# Altium integrated library Actel ProASIC A500K FPGA.IntLib: 292 symbols (part 1 of 2)
Pins are listed as number, name and electrical type; pins without a type are passive.

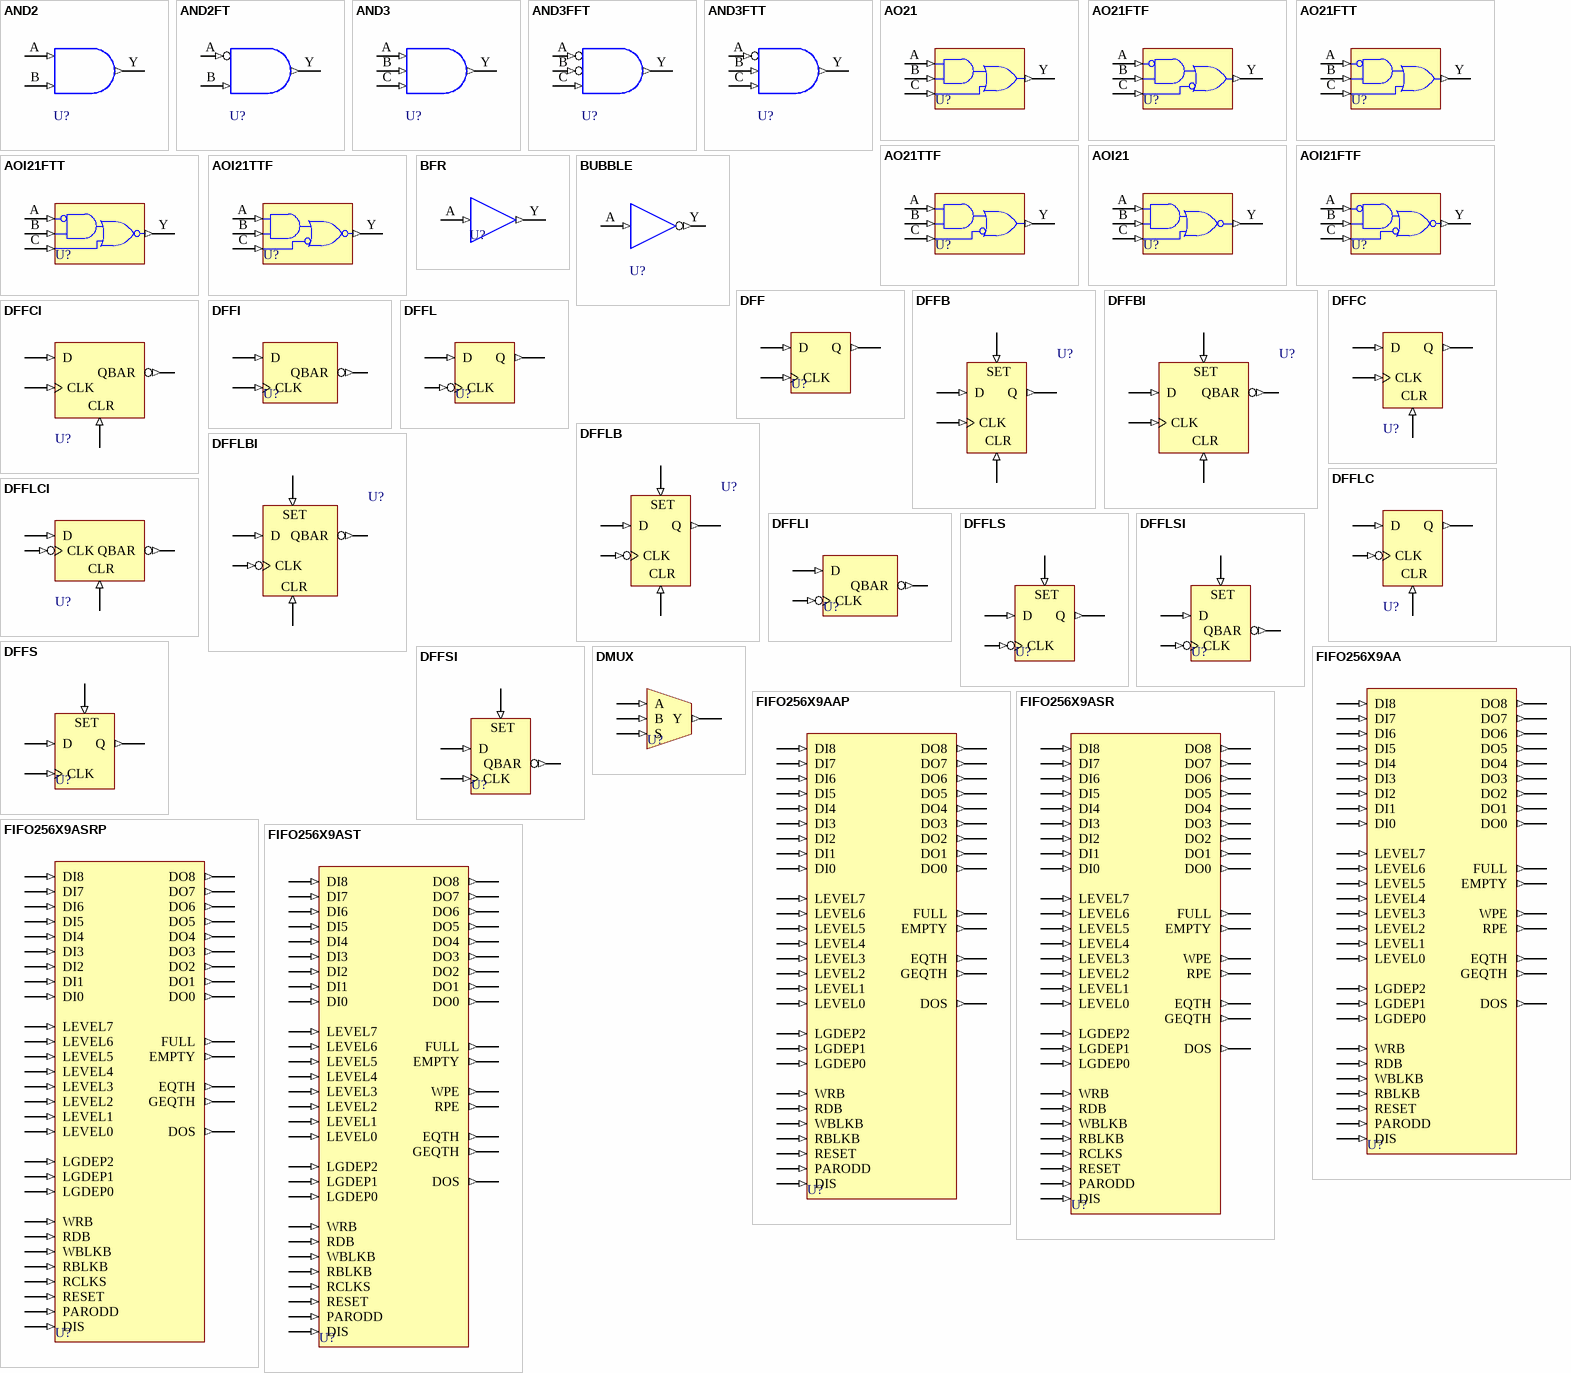
[diagram p0: symbols AND2 to FIFO256X9AST]

## AND2
designator U?
2 Input AND; FPGAVendor: Actel; Published: 21-Jul-2004; Publisher: Altium Limited; HelpURL: http://www.actel.com/documents/PA_libguide.pdf
pins: A (in), B (in), Y (out)

## AND2FT
designator U?
2 Input AND with Active Low A Input; FPGAVendor: Actel; Published: 21-Jul-2004; Publisher: Altium Limited; HelpURL: http://www.actel.com/documents/PA_libguide.pdf
pins: A (in), B (in), Y (out)

## AND3
designator U?
3 Input AND; FPGAVendor: Actel; Published: 21-Jul-2004; Publisher: Altium Limited; HelpURL: http://www.actel.com/documents/PA_libguide.pdf
pins: A (in), B (in), C (in), Y (out)

## AND3FFT
designator U?
3 Input AND with Active Low A and B Inputs; FPGAVendor: Actel; Published: 21-Jul-2004; Publisher: Altium Limited; HelpURL: http://www.actel.com/documents/PA_libguide.pdf
pins: A (in), B (in), C (in), Y (out)

## AND3FTT
designator U?
3 Input AND with Active Low A Input; FPGAVendor: Actel; Published: 21-Jul-2004; Publisher: Altium Limited; HelpURL: http://www.actel.com/documents/PA_libguide.pdf
pins: A (in), B (in), C (in), Y (out)

## AO21
designator U?
3 Input AND-OR; FPGAVendor: Actel; Published: 21-Jul-2004; Publisher: Altium Limited; HelpURL: http://www.actel.com/documents/PA_libguide.pdf
pins: A (in), B (in), C (in), Y (out)

## AO21FTF
designator U?
3 Input AND-OR with Active Low A and C Inputs; FPGAVendor: Actel; Published: 21-Jul-2004; Publisher: Altium Limited; HelpURL: http://www.actel.com/documents/PA_libguide.pdf
pins: A (in), B (in), C (in), Y (out)

## AO21FTT
designator U?
3 Input AND-OR with Active Low A Input; FPGAVendor: Actel; Published: 21-Jul-2004; Publisher: Altium Limited; HelpURL: http://www.actel.com/documents/PA_libguide.pdf
pins: A (in), B (in), C (in), Y (out)

## AO21TTF
designator U?
3 Input AND-OR with Active Low C Input; FPGAVendor: Actel; Published: 21-Jul-2004; Publisher: Altium Limited; HelpURL: http://www.actel.com/documents/PA_libguide.pdf
pins: A (in), B (in), C (in), Y (out)

## AOI21
designator U?
3 Input AND-OR-INVERT; FPGAVendor: Actel; Published: 21-Jul-2004; Publisher: Altium Limited; HelpURL: http://www.actel.com/documents/PA_libguide.pdf
pins: A (in), B (in), C (in), Y (out)

## AOI21FTF
designator U?
3 Input AND-OR-INVERT with Active Low A and C Inputs; FPGAVendor: Actel; Published: 21-Jul-2004; Publisher: Altium Limited; HelpURL: http://www.actel.com/documents/PA_libguide.pdf
pins: A (in), B (in), C (in), Y (out)

## AOI21FTT
designator U?
3 Input AND-OR-INVERT with Active Low A Input; FPGAVendor: Actel; Published: 21-Jul-2004; Publisher: Altium Limited; HelpURL: http://www.actel.com/documents/PA_libguide.pdf
pins: A (in), B (in), C (in), Y (out)

## AOI21TTF
designator U?
3 Input AND-OR-INVERT with Active Low C Input; FPGAVendor: Actel; Published: 21-Jul-2004; Publisher: Altium Limited; HelpURL: http://www.actel.com/documents/PA_libguide.pdf
pins: A (in), B (in), C (in), Y (out)

## BFR
designator U?
Buffer; FPGAVendor: Actel; Published: 21-Jul-2004; Publisher: Altium Limited; HelpURL: http://www.actel.com/documents/PA_libguide.pdf
pins: A (in), Y (out)

## BUBBLE
designator U?
Inverter (Only for internal embedded memory); FPGAVendor: Actel; Published: 21-Jul-2004; Publisher: Altium Limited; HelpURL: http://www.actel.com/documents/PA_libguide.pdf
pins: A (in), Y (out)

## DFF
designator U?
Positive Edge Triggered D-Type Flip-Flop; FPGAVendor: Actel; Published: 21-Jul-2004; Publisher: Altium Limited; HelpURL: http://www.actel.com/documents/PA_libguide.pdf
pins: CLK (in), D (in), Q (out)

## DFFB
designator U?
Positive Edge Triggered D-Type Flip-Flop with Active High Set and Clear; FPGAVendor: Actel; Published: 21-Jul-2004; Publisher: Altium Limited; HelpURL: http://www.actel.com/documents/PA_libguide.pdf
pins: CLK (in), CLR (in), D (in), Q (out), SET (in)

## DFFBI
designator U?
Positive Edge Triggered D-Type Flip-Flop with Active High Set and Clear / and Active Low Output; FPGAVendor: Actel; Published: 21-Jul-2004; Publisher: Altium Limited; HelpURL: http://www.actel.com/documents/PA_libguide.pdf
pins: CLK (in), CLR (in), D (in), QBAR (out), SET (in)

## DFFC
designator U?
Positive Edge Triggered D-Type Flip-Flop with Active High Clear; FPGAVendor: Actel; Published: 21-Jul-2004; Publisher: Altium Limited; HelpURL: http://www.actel.com/documents/PA_libguide.pdf
pins: CLK (in), CLR (in), D (in), Q (out)

## DFFCI
designator U?
Positive Edge Triggered D-Type Flip-Flop with Active High Clear and / Active Low Output; FPGAVendor: Actel; Published: 21-Jul-2004; Publisher: Altium Limited; HelpURL: http://www.actel.com/documents/PA_libguide.pdf
pins: CLK (in), CLR (in), D (in), QBAR (out)

## DFFI
designator U?
Positive Edge Triggered D-Type Flip-Flop with Active Low Output; FPGAVendor: Actel; Published: 21-Jul-2004; Publisher: Altium Limited; HelpURL: http://www.actel.com/documents/PA_libguide.pdf
pins: CLK (in), D (in), QBAR (out)

## DFFL
designator U?
Negative Edge Triggered D-Type Flip-Flop; FPGAVendor: Actel; Published: 21-Jul-2004; Publisher: Altium Limited; HelpURL: http://www.actel.com/documents/PA_libguide.pdf
pins: CLK (in), D (in), Q (out)

## DFFLB
designator U?
Negative Edge Triggered D-Type Flip-Flop with Active High Set and Clear; FPGAVendor: Actel; Published: 21-Jul-2004; Publisher: Altium Limited; HelpURL: http://www.actel.com/documents/PA_libguide.pdf
pins: CLK (in), CLR (in), D (in), Q (out), SET (in)

## DFFLBI
designator U?
Negative Edge Triggered D-Type Flip-Flop with Active High Set and Clear / and Active Low Output; FPGAVendor: Actel; Published: 21-Jul-2004; Publisher: Altium Limited; HelpURL: http://www.actel.com/documents/PA_libguide.pdf
pins: CLK (in), CLR (in), D (in), QBAR (out), SET (in)

## DFFLC
designator U?
Negative Edge Triggered D-Type Flip-Flop with Active High Clear; FPGAVendor: Actel; Published: 21-Jul-2004; Publisher: Altium Limited; HelpURL: http://www.actel.com/documents/PA_libguide.pdf
pins: CLK (in), CLR (in), D (in), Q (out)

## DFFLCI
designator U?
Negative Edge Triggered D-Type Flip-Flop with Active High Clear and / Active Low Output; FPGAVendor: Actel; Published: 21-Jul-2004; Publisher: Altium Limited; HelpURL: http://www.actel.com/documents/PA_libguide.pdf
pins: CLK (in), CLR (in), D (in), QBAR (out)

## DFFLI
designator U?
Negative Edge Triggered D-Type Flip-Flop with Active Low Output; FPGAVendor: Actel; Published: 21-Jul-2004; Publisher: Altium Limited; HelpURL: http://www.actel.com/documents/PA_libguide.pdf
pins: CLK (in), D (in), QBAR (out)

## DFFLS
designator U?
Negative Edge Triggered D-Type Flip-Flop with Active High Set; FPGAVendor: Actel; Published: 21-Jul-2004; Publisher: Altium Limited; HelpURL: http://www.actel.com/documents/PA_libguide.pdf
pins: CLK (in), D (in), Q (out), SET (in)

## DFFLSI
designator U?
Negative Edge Triggered D-Type Flip-Flop with Active High Set and / Active Low Output; FPGAVendor: Actel; Published: 21-Jul-2004; Publisher: Altium Limited; HelpURL: http://www.actel.com/documents/PA_libguide.pdf
pins: CLK (in), D (in), QBAR (out), SET (in)

## DFFS
designator U?
Positive Edge Triggered D-Type Flip-Flop with Active High Set; FPGAVendor: Actel; Published: 21-Jul-2004; Publisher: Altium Limited; HelpURL: http://www.actel.com/documents/PA_libguide.pdf
pins: CLK (in), D (in), Q (out), SET (in)

## DFFSI
designator U?
Positive Edge Triggered D-Type Flip-Flop with Active High Set and Active / Low Output; FPGAVendor: Actel; Published: 21-Jul-2004; Publisher: Altium Limited; HelpURL: http://www.actel.com/documents/PA_libguide.pdf
pins: CLK (in), D (in), QBAR (out), SET (in)

## DMUX
designator U?
Multiplexer; FPGAVendor: Actel; Published: 21-Jul-2004; Publisher: Altium Limited; HelpURL: http://www.actel.com/documents/PA_libguide.pdf
pins: A (in), B (in), S (in), Y (out)

## FIFO256X9AA
designator U?
Asynchronous Write/Asynchronous Read FIFO with Parity Checking; FPGAVendor: Actel; Published: 21-Jul-2004; Publisher: Altium Limited; HelpURL: http://www.actel.com/documents/PA_libguide.pdf
pins: DI0 (in), DI1 (in), DI2 (in), DI3 (in), DI4 (in), DI5 (in), DI6 (in), DI7 (in), DI8 (in), DIS (in), DO0 (out), DO1 (out), DO2 (out), DO3 (out), DO4 (out), DO5 (out), DO6 (out), DO7 (out), DO8 (out), DOS (out), EMPTY (out), EQTH (out), FULL (out), GEQTH (out), LEVEL0 (in), LEVEL1 (in), LEVEL2 (in), LEVEL3 (in), LEVEL4 (in), LEVEL5 (in), LEVEL6 (in), LEVEL7 (in), LGDEP0 (in), LGDEP1 (in), LGDEP2 (in), PARODD (in), RBLKB (in), RDB (in), RESET (in), RPE (out), WBLKB (in), WPE (out), WRB (in)

## FIFO256X9AAP
designator U?
Asynchronous Write/Asynchronous Read FIFO with Parity Generation; FPGAVendor: Actel; Published: 21-Jul-2004; Publisher: Altium Limited; HelpURL: http://www.actel.com/documents/PA_libguide.pdf
pins: DI0 (in), DI1 (in), DI2 (in), DI3 (in), DI4 (in), DI5 (in), DI6 (in), DI7 (in), DI8 (in), DIS (in), DO0 (out), DO1 (out), DO2 (out), DO3 (out), DO4 (out), DO5 (out), DO6 (out), DO7 (out), DO8 (out), DOS (out), EMPTY (out), EQTH (out), FULL (out), GEQTH (out), LEVEL0 (in), LEVEL1 (in), LEVEL2 (in), LEVEL3 (in), LEVEL4 (in), LEVEL5 (in), LEVEL6 (in), LEVEL7 (in), LGDEP0 (in), LGDEP1 (in), LGDEP2 (in), PARODD (in), RBLKB (in), RDB (in), RESET (in), WBLKB (in), WRB (in)

## FIFO256X9ASR
designator U?
Asynchronous Write/Synchronous Read FIFO with Registered Output and Parity Checking; FPGAVendor: Actel; Published: 21-Jul-2004; Publisher: Altium Limited; HelpURL: http://www.actel.com/documents/PA_libguide.pdf
pins: DI0 (in), DI1 (in), DI2 (in), DI3 (in), DI4 (in), DI5 (in), DI6 (in), DI7 (in), DI8 (in), DIS (in), DO0 (out), DO1 (out), DO2 (out), DO3 (out), DO4 (out), DO5 (out), DO6 (out), DO7 (out), DO8 (out), DOS (out), EMPTY (out), EQTH (out), FULL (out), GEQTH (out), LEVEL0 (in), LEVEL1 (in), LEVEL2 (in), LEVEL3 (in), LEVEL4 (in), LEVEL5 (in), LEVEL6 (in), LEVEL7 (in), LGDEP0 (in), LGDEP1 (in), LGDEP2 (in), PARODD (in), RBLKB (in), RCLKS (in), RDB (in), RESET (in), RPE (out), WBLKB (in), WPE (out), WRB (in)

## FIFO256X9ASRP
designator U?
Asynchronous Write/Synchronous Read FIFO with Registered Output and Parity Generation; FPGAVendor: Actel; Published: 21-Jul-2004; Publisher: Altium Limited; HelpURL: http://www.actel.com/documents/PA_libguide.pdf
pins: DI0 (in), DI1 (in), DI2 (in), DI3 (in), DI4 (in), DI5 (in), DI6 (in), DI7 (in), DI8 (in), DIS (in), DO0 (out), DO1 (out), DO2 (out), DO3 (out), DO4 (out), DO5 (out), DO6 (out), DO7 (out), DO8 (out), DOS (out), EMPTY (out), EQTH (out), FULL (out), GEQTH (out), LEVEL0 (in), LEVEL1 (in), LEVEL2 (in), LEVEL3 (in), LEVEL4 (in), LEVEL5 (in), LEVEL6 (in), LEVEL7 (in), LGDEP0 (in), LGDEP1 (in), LGDEP2 (in), PARODD (in), RBLKB (in), RCLKS (in), RDB (in), RESET (in), WBLKB (in), WRB (in)

## FIFO256X9AST
designator U?
Asynchronous Write/Synchronous Read FIFO with Transparent Output and Parity Checking; FPGAVendor: Actel; Published: 21-Jul-2004; Publisher: Altium Limited; HelpURL: http://www.actel.com/documents/PA_libguide.pdf
pins: DI0 (in), DI1 (in), DI2 (in), DI3 (in), DI4 (in), DI5 (in), DI6 (in), DI7 (in), DI8 (in), DIS (in), DO0 (out), DO1 (out), DO2 (out), DO3 (out), DO4 (out), DO5 (out), DO6 (out), DO7 (out), DO8 (out), DOS (out), EMPTY (out), EQTH (out), FULL (out), GEQTH (out), LEVEL0 (in), LEVEL1 (in), LEVEL2 (in), LEVEL3 (in), LEVEL4 (in), LEVEL5 (in), LEVEL6 (in), LEVEL7 (in), LGDEP0 (in), LGDEP1 (in), LGDEP2 (in), PARODD (in), RBLKB (in), RCLKS (in), RDB (in), RESET (in), RPE (out), WBLKB (in), WPE (out), WRB (in)

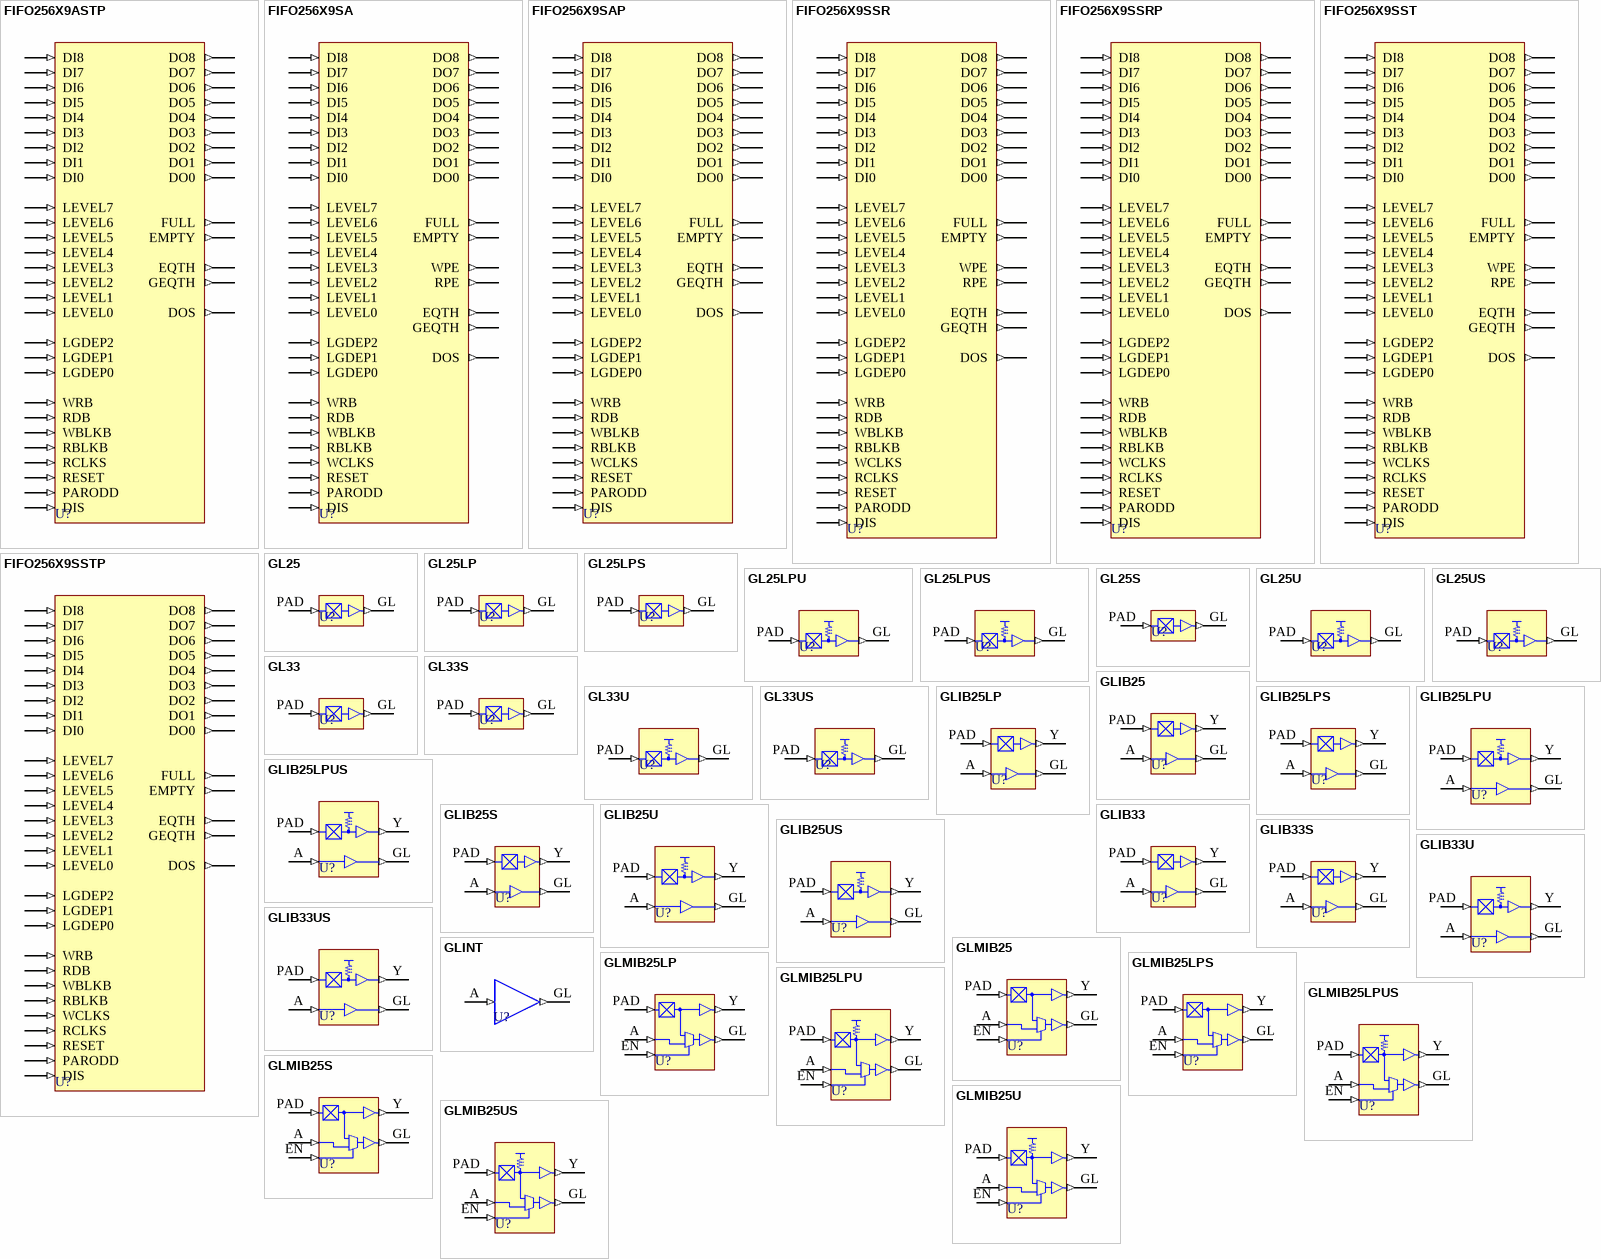
[diagram p1: symbols FIFO256X9ASTP to GLMIB25US]

## FIFO256X9ASTP
designator U?
Asynchronous Write/Synchronous Read FIFO with Transparent Output and Parity Generation; FPGAVendor: Actel; Published: 21-Jul-2004; Publisher: Altium Limited; HelpURL: http://www.actel.com/documents/PA_libguide.pdf
pins: DI0 (in), DI1 (in), DI2 (in), DI3 (in), DI4 (in), DI5 (in), DI6 (in), DI7 (in), DI8 (in), DIS (in), DO0 (out), DO1 (out), DO2 (out), DO3 (out), DO4 (out), DO5 (out), DO6 (out), DO7 (out), DO8 (out), DOS (out), EMPTY (out), EQTH (out), FULL (out), GEQTH (out), LEVEL0 (in), LEVEL1 (in), LEVEL2 (in), LEVEL3 (in), LEVEL4 (in), LEVEL5 (in), LEVEL6 (in), LEVEL7 (in), LGDEP0 (in), LGDEP1 (in), LGDEP2 (in), PARODD (in), RBLKB (in), RCLKS (in), RDB (in), RESET (in), WBLKB (in), WRB (in)

## FIFO256X9SA
designator U?
Synchronous Write/Asynchronous Read FIFO with Parity Checking; FPGAVendor: Actel; Published: 21-Jul-2004; Publisher: Altium Limited; HelpURL: http://www.actel.com/documents/PA_libguide.pdf
pins: DI0 (in), DI1 (in), DI2 (in), DI3 (in), DI4 (in), DI5 (in), DI6 (in), DI7 (in), DI8 (in), DIS (in), DO0 (out), DO1 (out), DO2 (out), DO3 (out), DO4 (out), DO5 (out), DO6 (out), DO7 (out), DO8 (out), DOS (out), EMPTY (out), EQTH (out), FULL (out), GEQTH (out), LEVEL0 (in), LEVEL1 (in), LEVEL2 (in), LEVEL3 (in), LEVEL4 (in), LEVEL5 (in), LEVEL6 (in), LEVEL7 (in), LGDEP0 (in), LGDEP1 (in), LGDEP2 (in), PARODD (in), RBLKB (in), RDB (in), RESET (in), RPE (out), WBLKB (in), WCLKS (in), WPE (out), WRB (in)

## FIFO256X9SAP
designator U?
Synchronous Write/Asynchronous Read FIFO with Parity Generation; FPGAVendor: Actel; Published: 21-Jul-2004; Publisher: Altium Limited; HelpURL: http://www.actel.com/documents/PA_libguide.pdf
pins: DI0 (in), DI1 (in), DI2 (in), DI3 (in), DI4 (in), DI5 (in), DI6 (in), DI7 (in), DI8 (in), DIS (in), DO0 (out), DO1 (out), DO2 (out), DO3 (out), DO4 (out), DO5 (out), DO6 (out), DO7 (out), DO8 (out), DOS (out), EMPTY (out), EQTH (out), FULL (out), GEQTH (out), LEVEL0 (in), LEVEL1 (in), LEVEL2 (in), LEVEL3 (in), LEVEL4 (in), LEVEL5 (in), LEVEL6 (in), LEVEL7 (in), LGDEP0 (in), LGDEP1 (in), LGDEP2 (in), PARODD (in), RBLKB (in), RDB (in), RESET (in), WBLKB (in), WCLKS (in), WRB (in)

## FIFO256X9SSR
designator U?
Synchronous Write/Synchronous Read FIFO with Registered Output and Parity Checking; FPGAVendor: Actel; Published: 21-Jul-2004; Publisher: Altium Limited; HelpURL: http://www.actel.com/documents/PA_libguide.pdf
pins: DI0 (in), DI1 (in), DI2 (in), DI3 (in), DI4 (in), DI5 (in), DI6 (in), DI7 (in), DI8 (in), DIS (in), DO0 (out), DO1 (out), DO2 (out), DO3 (out), DO4 (out), DO5 (out), DO6 (out), DO7 (out), DO8 (out), DOS (out), EMPTY (out), EQTH (out), FULL (out), GEQTH (out), LEVEL0 (in), LEVEL1 (in), LEVEL2 (in), LEVEL3 (in), LEVEL4 (in), LEVEL5 (in), LEVEL6 (in), LEVEL7 (in), LGDEP0 (in), LGDEP1 (in), LGDEP2 (in), PARODD (in), RBLKB (in), RCLKS (in), RDB (in), RESET (in), RPE (out), WBLKB (in), WCLKS (in), WPE (out), WRB (in)

## FIFO256X9SSRP
designator U?
Synchronous Write/Synchronous Read FIFO with Registered Output and Parity Generation; FPGAVendor: Actel; Published: 21-Jul-2004; Publisher: Altium Limited; HelpURL: http://www.actel.com/documents/PA_libguide.pdf
pins: DI0 (in), DI1 (in), DI2 (in), DI3 (in), DI4 (in), DI5 (in), DI6 (in), DI7 (in), DI8 (in), DIS (in), DO0 (out), DO1 (out), DO2 (out), DO3 (out), DO4 (out), DO5 (out), DO6 (out), DO7 (out), DO8 (out), DOS (out), EMPTY (out), EQTH (out), FULL (out), GEQTH (out), LEVEL0 (in), LEVEL1 (in), LEVEL2 (in), LEVEL3 (in), LEVEL4 (in), LEVEL5 (in), LEVEL6 (in), LEVEL7 (in), LGDEP0 (in), LGDEP1 (in), LGDEP2 (in), PARODD (in), RBLKB (in), RCLKS (in), RDB (in), RESET (in), WBLKB (in), WCLKS (in), WRB (in)

## FIFO256X9SST
designator U?
Synchronous Write/Synchronous Read FIFO with Transparent Output and Parity Checking; FPGAVendor: Actel; Published: 21-Jul-2004; Publisher: Altium Limited; HelpURL: http://www.actel.com/documents/PA_libguide.pdf
pins: DI0 (in), DI1 (in), DI2 (in), DI3 (in), DI4 (in), DI5 (in), DI6 (in), DI7 (in), DI8 (in), DIS (in), DO0 (out), DO1 (out), DO2 (out), DO3 (out), DO4 (out), DO5 (out), DO6 (out), DO7 (out), DO8 (out), DOS (out), EMPTY (out), EQTH (out), FULL (out), GEQTH (out), LEVEL0 (in), LEVEL1 (in), LEVEL2 (in), LEVEL3 (in), LEVEL4 (in), LEVEL5 (in), LEVEL6 (in), LEVEL7 (in), LGDEP0 (in), LGDEP1 (in), LGDEP2 (in), PARODD (in), RBLKB (in), RCLKS (in), RDB (in), RESET (in), RPE (out), WBLKB (in), WCLKS (in), WPE (out), WRB (in)

## FIFO256X9SSTP
designator U?
Synchronous Write/Synchronous Read FIFO with Transparent Output and Parity Generation; FPGAVendor: Actel; Published: 21-Jul-2004; Publisher: Altium Limited; HelpURL: http://www.actel.com/documents/PA_libguide.pdf
pins: DI0 (in), DI1 (in), DI2 (in), DI3 (in), DI4 (in), DI5 (in), DI6 (in), DI7 (in), DI8 (in), DIS (in), DO0 (out), DO1 (out), DO2 (out), DO3 (out), DO4 (out), DO5 (out), DO6 (out), DO7 (out), DO8 (out), DOS (out), EMPTY (out), EQTH (out), FULL (out), GEQTH (out), LEVEL0 (in), LEVEL1 (in), LEVEL2 (in), LEVEL3 (in), LEVEL4 (in), LEVEL5 (in), LEVEL6 (in), LEVEL7 (in), LGDEP0 (in), LGDEP1 (in), LGDEP2 (in), PARODD (in), RBLKB (in), RCLKS (in), RDB (in), RESET (in), WBLKB (in), WCLKS (in), WRB (in)

## GL25
designator U?
2.5 Volt CMOS input levels; FPGAVendor: Actel; Published: 21-Jul-2004; Publisher: Altium Limited; HelpURL: http://www.actel.com/documents/PA_libguide.pdf
pins: GL (out), PAD (in)

## GL25LP
designator U?
2.5 Volt CMOS input levels, low power; FPGAVendor: Actel; Published: 21-Jul-2004; Publisher: Altium Limited; HelpURL: http://www.actel.com/documents/PA_libguide.pdf
pins: GL (out), PAD (in)

## GL25LPS
designator U?
2.5 Volt CMOS input levels, low power, Schmitt Trigger; FPGAVendor: Actel; Published: 21-Jul-2004; Publisher: Altium Limited; HelpURL: http://www.actel.com/documents/PA_libguide.pdf
pins: GL (out), PAD (in)

## GL25LPU
designator U?
2.5 Volt CMOS input levels, low power, with pull-up resistor; FPGAVendor: Actel; Published: 21-Jul-2004; Publisher: Altium Limited; HelpURL: http://www.actel.com/documents/PA_libguide.pdf
pins: GL (out), PAD (in)

## GL25LPUS
designator U?
2.5 Volt CMOS input levels, low power, with pull-up resistor, Schmitt Trigger; FPGAVendor: Actel; Published: 21-Jul-2004; Publisher: Altium Limited; HelpURL: http://www.actel.com/documents/PA_libguide.pdf
pins: GL (out), PAD (in)

## GL25S
designator U?
2.5 Volt CMOS input levels, Schmitt Trigger; FPGAVendor: Actel; Published: 21-Jul-2004; Publisher: Altium Limited; HelpURL: http://www.actel.com/documents/PA_libguide.pdf
pins: GL (out), PAD (in)

## GL25U
designator U?
2.5 Volt CMOS input levels, with pull-up resistor; FPGAVendor: Actel; Published: 21-Jul-2004; Publisher: Altium Limited; HelpURL: http://www.actel.com/documents/PA_libguide.pdf
pins: GL (out), PAD (in)

## GL25US
designator U?
2.5 Volt CMOS input levels, with pull-up resistor, Schmitt Trigger; FPGAVendor: Actel; Published: 21-Jul-2004; Publisher: Altium Limited; HelpURL: http://www.actel.com/documents/PA_libguide.pdf
pins: GL (out), PAD (in)

## GL33
designator U?
3.3 Volt CMOS input levels; FPGAVendor: Actel; Published: 21-Jul-2004; Publisher: Altium Limited; HelpURL: http://www.actel.com/documents/PA_libguide.pdf
pins: GL (out), PAD (in)

## GL33S
designator U?
3.3 Volt CMOS input levels, Schmitt Trigger; FPGAVendor: Actel; Published: 21-Jul-2004; Publisher: Altium Limited; HelpURL: http://www.actel.com/documents/PA_libguide.pdf
pins: GL (out), PAD (in)

## GL33U
designator U?
3.3 Volt CMOS input levels, with pull-up resistor; FPGAVendor: Actel; Published: 21-Jul-2004; Publisher: Altium Limited; HelpURL: http://www.actel.com/documents/PA_libguide.pdf
pins: GL (out), PAD (in)

## GL33US
designator U?
3.3 Volt CMOS input levels, with pull-up resistor, Schmitt Trigger; FPGAVendor: Actel; Published: 21-Jul-2004; Publisher: Altium Limited; HelpURL: http://www.actel.com/documents/PA_libguide.pdf
pins: GL (out), PAD (in)

## GLIB25
designator U?
2.5 Volt CMOS input levels; FPGAVendor: Actel; Published: 21-Jul-2004; Publisher: Altium Limited; HelpURL: http://www.actel.com/documents/PA_libguide.pdf
pins: A (in), GL (out), PAD (in), Y (out)

## GLIB25LP
designator U?
2.5 Volt CMOS input levels, low power; FPGAVendor: Actel; Published: 21-Jul-2004; Publisher: Altium Limited; HelpURL: http://www.actel.com/documents/PA_libguide.pdf
pins: A (in), GL (out), PAD (in), Y (out)

## GLIB25LPS
designator U?
2.5 Volt CMOS input levels, low power, Schmitt Trigger; FPGAVendor: Actel; Published: 21-Jul-2004; Publisher: Altium Limited; HelpURL: http://www.actel.com/documents/PA_libguide.pdf
pins: A (in), GL (out), PAD (in), Y (out)

## GLIB25LPU
designator U?
2.5 Volt CMOS input levels, low power, with pull-up resistor; FPGAVendor: Actel; Published: 21-Jul-2004; Publisher: Altium Limited; HelpURL: http://www.actel.com/documents/PA_libguide.pdf
pins: A (in), GL (out), PAD (in), Y (out)

## GLIB25LPUS
designator U?
2.5 Volt CMOS input levels, low power, with pull-up resistor and Schmitt Trigger; FPGAVendor: Actel; Published: 21-Jul-2004; Publisher: Altium Limited; HelpURL: http://www.actel.com/documents/PA_libguide.pdf
pins: A (in), GL (out), PAD (in), Y (out)

## GLIB25S
designator U?
2.5 Volt CMOS input levels, Schmitt Trigger; FPGAVendor: Actel; Published: 21-Jul-2004; Publisher: Altium Limited; HelpURL: http://www.actel.com/documents/PA_libguide.pdf
pins: A (in), GL (out), PAD (in), Y (out)

## GLIB25U
designator U?
2.5 Volt CMOS input levels, with pull-up resistor; FPGAVendor: Actel; Published: 21-Jul-2004; Publisher: Altium Limited; HelpURL: http://www.actel.com/documents/PA_libguide.pdf
pins: A (in), GL (out), PAD (in), Y (out)

## GLIB25US
designator U?
2.5 Volt CMOS input levels, with pull-up resistor and Schmitt Trigger; FPGAVendor: Actel; Published: 21-Jul-2004; Publisher: Altium Limited; HelpURL: http://www.actel.com/documents/PA_libguide.pdf
pins: A (in), GL (out), PAD (in), Y (out)

## GLIB33
designator U?
3.3 Volt CMOS input levels; FPGAVendor: Actel; Published: 21-Jul-2004; Publisher: Altium Limited; HelpURL: http://www.actel.com/documents/PA_libguide.pdf
pins: A (in), GL (out), PAD (in), Y (out)

## GLIB33S
designator U?
3.3 Volt CMOS input levels, Schmitt Trigger; FPGAVendor: Actel; Published: 21-Jul-2004; Publisher: Altium Limited; HelpURL: http://www.actel.com/documents/PA_libguide.pdf
pins: A (in), GL (out), PAD (in), Y (out)

## GLIB33U
designator U?
3.3 Volt CMOS input levels, with pull-up resistor; FPGAVendor: Actel; Published: 21-Jul-2004; Publisher: Altium Limited; HelpURL: http://www.actel.com/documents/PA_libguide.pdf
pins: A (in), GL (out), PAD (in), Y (out)

## GLIB33US
designator U?
3.3 Volt CMOS input levels, with pull-up resistor and Schmitt Trigger; FPGAVendor: Actel; Published: 21-Jul-2004; Publisher: Altium Limited; HelpURL: http://www.actel.com/documents/PA_libguide.pdf
pins: A (in), GL (out), PAD (in), Y (out)

## GLINT
designator U?
Global Buffer with Internal Connection; FPGAVendor: Actel; Published: 21-Jul-2004; Publisher: Altium Limited; HelpURL: http://www.actel.com/documents/PA_libguide.pdf
pins: A (in), GL (out)

## GLMIB25
designator U?
2.5 Volt CMOS input levels; FPGAVendor: Actel; Published: 21-Jul-2004; Publisher: Altium Limited; HelpURL: http://www.actel.com/documents/PA_libguide.pdf
pins: A (in), EN (in), GL (out), PAD (in), Y (out)

## GLMIB25LP
designator U?
2.5 Volt CMOS input levels, low power; FPGAVendor: Actel; Published: 21-Jul-2004; Publisher: Altium Limited; HelpURL: http://www.actel.com/documents/PA_libguide.pdf
pins: A (in), EN (in), GL (out), PAD (in), Y (out)

## GLMIB25LPS
designator U?
2.5 Volt CMOS input levels, low power, Schmitt Trigger; FPGAVendor: Actel; Published: 21-Jul-2004; Publisher: Altium Limited; HelpURL: http://www.actel.com/documents/PA_libguide.pdf
pins: A (in), EN (in), GL (out), PAD (in), Y (out)

## GLMIB25LPU
designator U?
2.5 Volt CMOS input levels, low power, with pull-up resistor; FPGAVendor: Actel; Published: 21-Jul-2004; Publisher: Altium Limited; HelpURL: http://www.actel.com/documents/PA_libguide.pdf
pins: A (in), EN (in), GL (out), PAD (in), Y (out)

## GLMIB25LPUS
designator U?
2.5 Volt CMOS input levels, low power, with pull-up resistor and Schmitt Trigger; FPGAVendor: Actel; Published: 21-Jul-2004; Publisher: Altium Limited; HelpURL: http://www.actel.com/documents/PA_libguide.pdf
pins: A (in), EN (in), GL (out), PAD (in), Y (out)

## GLMIB25S
designator U?
2.5 Volt CMOS input levels, Schmitt Trigger; FPGAVendor: Actel; Published: 21-Jul-2004; Publisher: Altium Limited; HelpURL: http://www.actel.com/documents/PA_libguide.pdf
pins: A (in), EN (in), GL (out), PAD (in), Y (out)

## GLMIB25U
designator U?
2.5 Volt CMOS input levels, with pull-up resistor; FPGAVendor: Actel; Published: 21-Jul-2004; Publisher: Altium Limited; HelpURL: http://www.actel.com/documents/PA_libguide.pdf
pins: A (in), EN (in), GL (out), PAD (in), Y (out)

## GLMIB25US
designator U?
2.5 Volt CMOS input levels, with pull-up resistor and Schmitt Trigger; FPGAVendor: Actel; Published: 21-Jul-2004; Publisher: Altium Limited; HelpURL: http://www.actel.com/documents/PA_libguide.pdf
pins: A (in), EN (in), GL (out), PAD (in), Y (out)

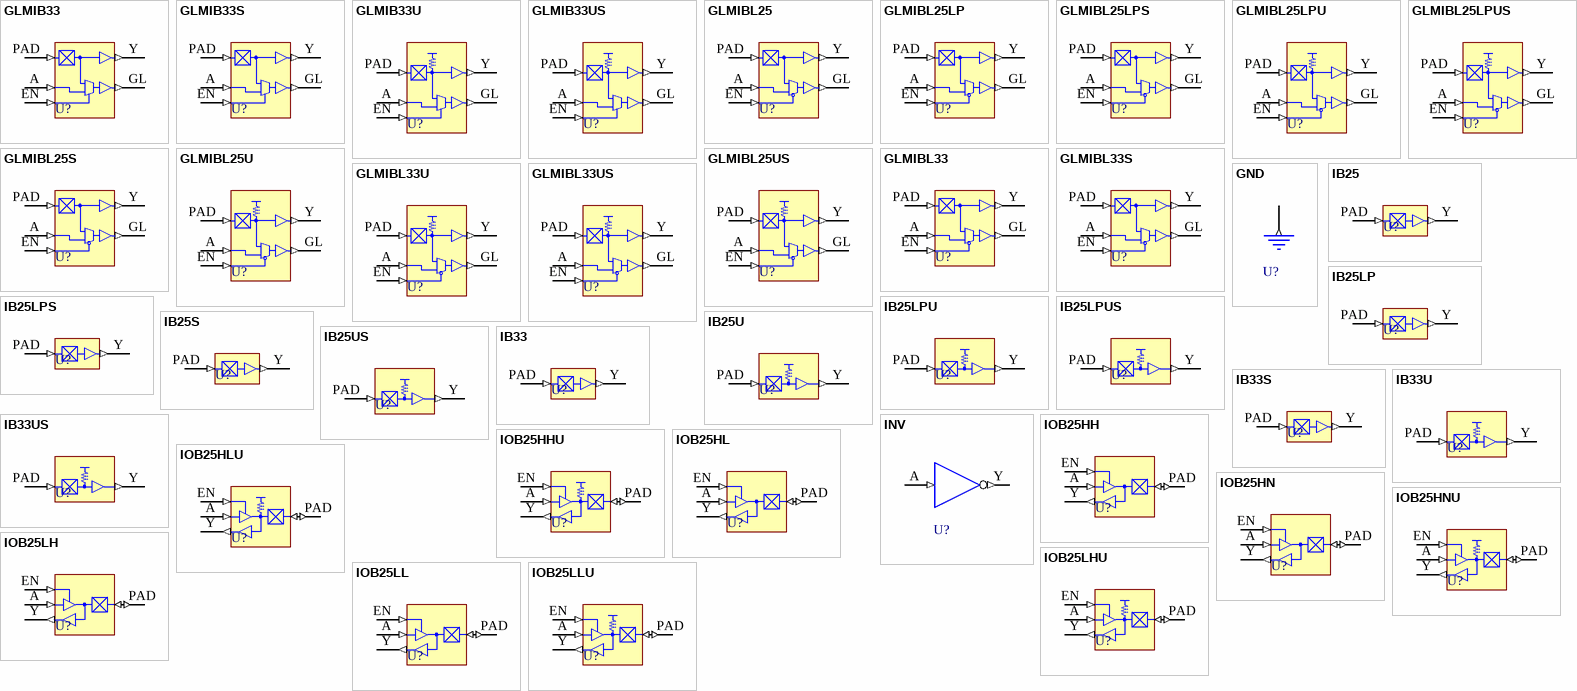
[diagram p2: symbols GLMIB33 to IOB25LLU]

## GLMIB33
designator U?
3.3 Volt CMOS input levels; FPGAVendor: Actel; Published: 21-Jul-2004; Publisher: Altium Limited; HelpURL: http://www.actel.com/documents/PA_libguide.pdf
pins: A (in), EN (in), GL (out), PAD (in), Y (out)

## GLMIB33S
designator U?
3.3 Volt CMOS input levels, Schmitt Trigger; FPGAVendor: Actel; Published: 21-Jul-2004; Publisher: Altium Limited; HelpURL: http://www.actel.com/documents/PA_libguide.pdf
pins: A (in), EN (in), GL (out), PAD (in), Y (out)

## GLMIB33U
designator U?
3.3 Volt CMOS input levels, with pull-up resistor; FPGAVendor: Actel; Published: 21-Jul-2004; Publisher: Altium Limited; HelpURL: http://www.actel.com/documents/PA_libguide.pdf
pins: A (in), EN (in), GL (out), PAD (in), Y (out)

## GLMIB33US
designator U?
3.3 Volt CMOS input levels, with pull-up resistor and Schmitt Trigger; FPGAVendor: Actel; Published: 21-Jul-2004; Publisher: Altium Limited; HelpURL: http://www.actel.com/documents/PA_libguide.pdf
pins: A (in), EN (in), GL (out), PAD (in), Y (out)

## GLMIBL25
designator U?
2.5 Volt CMOS input levels; FPGAVendor: Actel; Published: 21-Jul-2004; Publisher: Altium Limited; HelpURL: http://www.actel.com/documents/PA_libguide.pdf
pins: A (in), EN (in), GL (out), PAD (in), Y (out)

## GLMIBL25LP
designator U?
2.5 Volt CMOS input levels, low power; FPGAVendor: Actel; Published: 21-Jul-2004; Publisher: Altium Limited; HelpURL: http://www.actel.com/documents/PA_libguide.pdf
pins: A (in), EN (in), GL (out), PAD (in), Y (out)

## GLMIBL25LPS
designator U?
2.5 Volt CMOS input levels, low power, Schmitt Trigger; FPGAVendor: Actel; Published: 21-Jul-2004; Publisher: Altium Limited; HelpURL: http://www.actel.com/documents/PA_libguide.pdf
pins: A (in), EN (in), GL (out), PAD (in), Y (out)

## GLMIBL25LPU
designator U?
2.5 Volt CMOS input levels, low power, with pull-up resistor; FPGAVendor: Actel; Published: 21-Jul-2004; Publisher: Altium Limited; HelpURL: http://www.actel.com/documents/PA_libguide.pdf
pins: A (in), EN (in), GL (out), PAD (in), Y (out)

## GLMIBL25LPUS
designator U?
2.5 Volt CMOS input levels, low power, with pull-up resistor and Schmitt Trigger; FPGAVendor: Actel; Published: 21-Jul-2004; Publisher: Altium Limited; HelpURL: http://www.actel.com/documents/PA_libguide.pdf
pins: A (in), EN (in), GL (out), PAD (in), Y (out)

## GLMIBL25S
designator U?
2.5 Volt CMOS input levels, Schmitt Trigger; FPGAVendor: Actel; Published: 21-Jul-2004; Publisher: Altium Limited; HelpURL: http://www.actel.com/documents/PA_libguide.pdf
pins: A (in), EN (in), GL (out), PAD (in), Y (out)

## GLMIBL25U
designator U?
2.5 Volt CMOS input levels, with pull-up resistor; FPGAVendor: Actel; Published: 21-Jul-2004; Publisher: Altium Limited; HelpURL: http://www.actel.com/documents/PA_libguide.pdf
pins: A (in), EN (in), GL (out), PAD (in), Y (out)

## GLMIBL25US
designator U?
2.5 Volt CMOS input levels, with pull-up resistor and Schmitt Trigger; FPGAVendor: Actel; Published: 21-Jul-2004; Publisher: Altium Limited; HelpURL: http://www.actel.com/documents/PA_libguide.pdf
pins: A (in), EN (in), GL (out), PAD (in), Y (out)

## GLMIBL33
designator U?
3.3 Volt CMOS input levels; FPGAVendor: Actel; Published: 21-Jul-2004; Publisher: Altium Limited; HelpURL: http://www.actel.com/documents/PA_libguide.pdf
pins: A (in), EN (in), GL (out), PAD (in), Y (out)

## GLMIBL33S
designator U?
3.3 Volt CMOS input levels, Schmitt Trigger; FPGAVendor: Actel; Published: 21-Jul-2004; Publisher: Altium Limited; HelpURL: http://www.actel.com/documents/PA_libguide.pdf
pins: A (in), EN (in), GL (out), PAD (in), Y (out)

## GLMIBL33U
designator U?
3.3 Volt CMOS input levels, with pull-up resistor; FPGAVendor: Actel; Published: 21-Jul-2004; Publisher: Altium Limited; HelpURL: http://www.actel.com/documents/PA_libguide.pdf
pins: A (in), EN (in), GL (out), PAD (in), Y (out)

## GLMIBL33US
designator U?
3.3 Volt CMOS input levels, with pull-up resistor and Schmitt Trigger; FPGAVendor: Actel; Published: 21-Jul-2004; Publisher: Altium Limited; HelpURL: http://www.actel.com/documents/PA_libguide.pdf
pins: A (in), EN (in), GL (out), PAD (in), Y (out)

## GND
designator U?
Ground; FPGAVendor: Actel; Published: 21-Jul-2004; Publisher: Altium Limited; HelpURL: http://www.actel.com/documents/PA_libguide.pdf
pins: Y (out)

## IB25
designator U?
2.5 Volt CMOS input levels; FPGAVendor: Actel; Published: 21-Jul-2004; Publisher: Altium Limited; HelpURL: http://www.actel.com/documents/PA_libguide.pdf
pins: PAD (in), Y (out)

## IB25LP
designator U?
2.5 Volt CMOS input levels, low power; FPGAVendor: Actel; Published: 21-Jul-2004; Publisher: Altium Limited; HelpURL: http://www.actel.com/documents/PA_libguide.pdf
pins: PAD (in), Y (out)

## IB25LPS
designator U?
2.5 Volt CMOS input levels, low power, Schmitt Trigger; FPGAVendor: Actel; Published: 21-Jul-2004; Publisher: Altium Limited; HelpURL: http://www.actel.com/documents/PA_libguide.pdf
pins: PAD (in), Y (out)

## IB25LPU
designator U?
2.5 Volt CMOS input levels, low power, with pull-up resistor; FPGAVendor: Actel; Published: 21-Jul-2004; Publisher: Altium Limited; HelpURL: http://www.actel.com/documents/PA_libguide.pdf
pins: PAD (in), Y (out)

## IB25LPUS
designator U?
2.5 Volt CMOS input levels, low power, with pull-up resistor and Schmitt Trigger; FPGAVendor: Actel; Published: 21-Jul-2004; Publisher: Altium Limited; HelpURL: http://www.actel.com/documents/PA_libguide.pdf
pins: PAD (in), Y (out)

## IB25S
designator U?
2.5 Volt CMOS input levels, Schmitt Trigger; FPGAVendor: Actel; Published: 21-Jul-2004; Publisher: Altium Limited; HelpURL: http://www.actel.com/documents/PA_libguide.pdf
pins: PAD (in), Y (out)

## IB25U
designator U?
2.5 Volt CMOS input levels, with pull-up resistor; FPGAVendor: Actel; Published: 21-Jul-2004; Publisher: Altium Limited; HelpURL: http://www.actel.com/documents/PA_libguide.pdf
pins: PAD (in), Y (out)

## IB25US
designator U?
2.5 Volt CMOS input levels, with pull-up resistor and Schmitt Trigger; FPGAVendor: Actel; Published: 21-Jul-2004; Publisher: Altium Limited; HelpURL: http://www.actel.com/documents/PA_libguide.pdf
pins: PAD (in), Y (out)

## IB33
designator U?
3.3 Volt CMOS input levels; FPGAVendor: Actel; Published: 21-Jul-2004; Publisher: Altium Limited; HelpURL: http://www.actel.com/documents/PA_libguide.pdf
pins: PAD (in), Y (out)

## IB33S
designator U?
3.3 Volt CMOS input levels, Schmitt Trigger; FPGAVendor: Actel; Published: 21-Jul-2004; Publisher: Altium Limited; HelpURL: http://www.actel.com/documents/PA_libguide.pdf
pins: PAD (in), Y (out)

## IB33U
designator U?
3.3 Volt CMOS input levels, with pull-up resistor; FPGAVendor: Actel; Published: 21-Jul-2004; Publisher: Altium Limited; HelpURL: http://www.actel.com/documents/PA_libguide.pdf
pins: PAD (in), Y (out)

## IB33US
designator U?
3.3 Volt CMOS input levels, with pull-up resistor and Schmitt Trigger; FPGAVendor: Actel; Published: 21-Jul-2004; Publisher: Altium Limited; HelpURL: http://www.actel.com/documents/PA_libguide.pdf
pins: PAD (in), Y (out)

## INV
designator U?
Inverter; FPGAVendor: Actel; Published: 21-Jul-2004; Publisher: Altium Limited; HelpURL: http://www.actel.com/documents/PA_libguide.pdf
pins: A (in), Y (out)

## IOB25HH
designator U?
2.5 Volt CMOS input levels, high drive strength, high slew rate; FPGAVendor: Actel; Published: 21-Jul-2004; Publisher: Altium Limited; HelpURL: http://www.actel.com/documents/PA_libguide.pdf
pins: A (in), EN (in), PAD (io), Y (out)

## IOB25HHU
designator U?
2.5 Volt CMOS input levels, high drive strength, high slew rate, with pull-up resistor; FPGAVendor: Actel; Published: 21-Jul-2004; Publisher: Altium Limited; HelpURL: http://www.actel.com/documents/PA_libguide.pdf
pins: A (in), EN (in), PAD (io), Y (out)

## IOB25HL
designator U?
2.5 Volt CMOS input levels, high drive strength, low slew rate; FPGAVendor: Actel; Published: 21-Jul-2004; Publisher: Altium Limited; HelpURL: http://www.actel.com/documents/PA_libguide.pdf
pins: A (in), EN (in), PAD (io), Y (out)

## IOB25HLU
designator U?
2.5 Volt CMOS input levels, high drive strength, low slew rate, with pull-up resistor; FPGAVendor: Actel; Published: 21-Jul-2004; Publisher: Altium Limited; HelpURL: http://www.actel.com/documents/PA_libguide.pdf
pins: A (in), EN (in), PAD (io), Y (out)

## IOB25HN
designator U?
2.5 Volt CMOS input levels, high drive strength, normal slew rate; FPGAVendor: Actel; Published: 21-Jul-2004; Publisher: Altium Limited; HelpURL: http://www.actel.com/documents/PA_libguide.pdf
pins: A (in), EN (in), PAD (io), Y (out)

## IOB25HNU
designator U?
2.5 Volt CMOS input levels, high drive strength, normal slew rate, with pull-up resistor; FPGAVendor: Actel; Published: 21-Jul-2004; Publisher: Altium Limited; HelpURL: http://www.actel.com/documents/PA_libguide.pdf
pins: A (in), EN (in), PAD (io), Y (out)

## IOB25LH
designator U?
2.5 Volt CMOS input levels, low drive strength, high slew rate; FPGAVendor: Actel; Published: 21-Jul-2004; Publisher: Altium Limited; HelpURL: http://www.actel.com/documents/PA_libguide.pdf
pins: A (in), EN (in), PAD (io), Y (out)

## IOB25LHU
designator U?
2.5 Volt CMOS input levels, low drive strength, high slew rate, with pull-up resistor; FPGAVendor: Actel; Published: 21-Jul-2004; Publisher: Altium Limited; HelpURL: http://www.actel.com/documents/PA_libguide.pdf
pins: A (in), EN (in), PAD (io), Y (out)

## IOB25LL
designator U?
2.5 Volt CMOS input levels, low drive strength, low slew rate; FPGAVendor: Actel; Published: 21-Jul-2004; Publisher: Altium Limited; HelpURL: http://www.actel.com/documents/PA_libguide.pdf
pins: A (in), EN (in), PAD (io), Y (out)

## IOB25LLU
designator U?
2.5 Volt CMOS input levels, low drive strength, low slew rate, with pull-up resistor; FPGAVendor: Actel; Published: 21-Jul-2004; Publisher: Altium Limited; HelpURL: http://www.actel.com/documents/PA_libguide.pdf
pins: A (in), EN (in), PAD (io), Y (out)

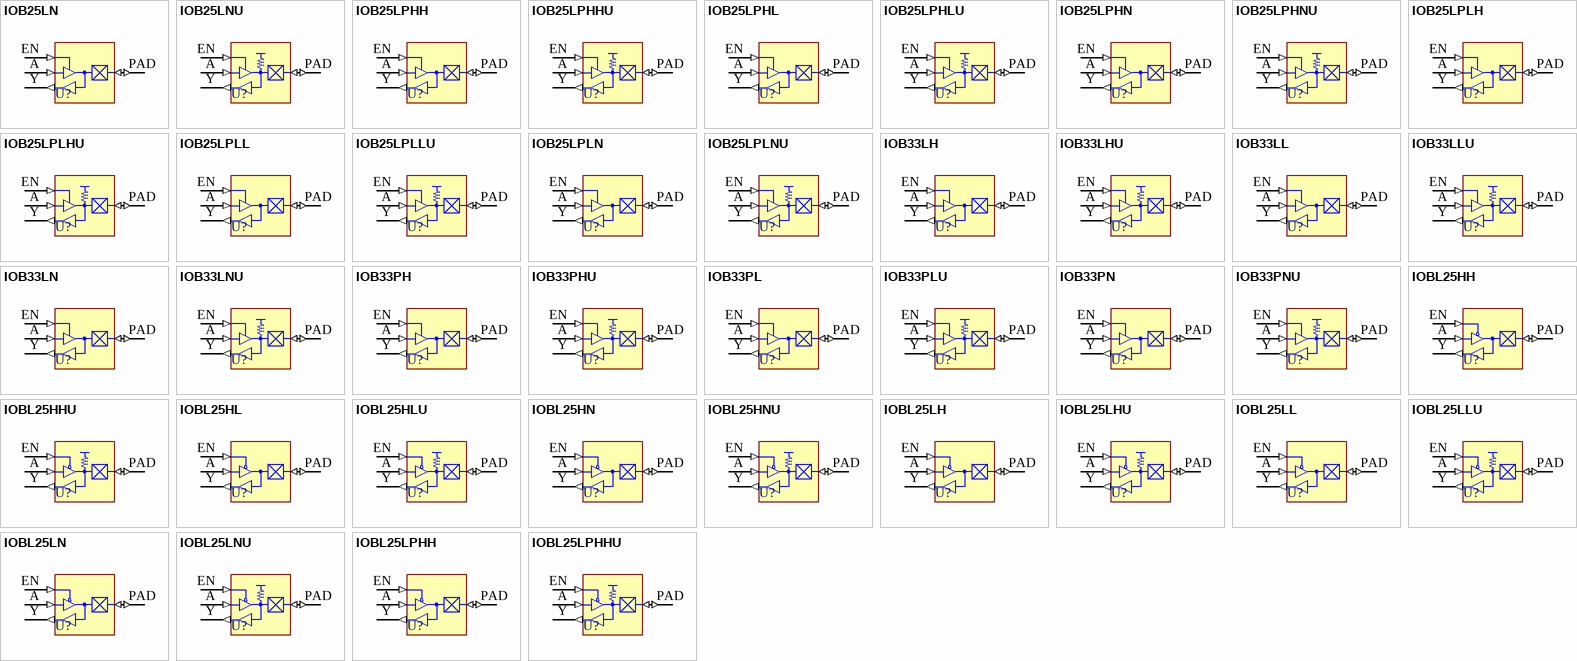
[diagram p3: symbols IOB25LN to IOBL25LPHHU]

## IOB25LN
designator U?
2.5 Volt CMOS input levels, low drive strength, normal slew rate; FPGAVendor: Actel; Published: 21-Jul-2004; Publisher: Altium Limited; HelpURL: http://www.actel.com/documents/PA_libguide.pdf
pins: A (in), EN (in), PAD (io), Y (out)

## IOB25LNU
designator U?
2.5 Volt CMOS input levels, low drive strength, normal slew rate, with pull-up resistor; FPGAVendor: Actel; Published: 21-Jul-2004; Publisher: Altium Limited; HelpURL: http://www.actel.com/documents/PA_libguide.pdf
pins: A (in), EN (in), PAD (io), Y (out)

## IOB25LPHH
designator U?
2.5 Volt CMOS input levels, low power, high drive strength, high slew rate; FPGAVendor: Actel; Published: 21-Jul-2004; Publisher: Altium Limited; HelpURL: http://www.actel.com/documents/PA_libguide.pdf
pins: A (in), EN (in), PAD (io), Y (out)

## IOB25LPHHU
designator U?
2.5 Volt CMOS input levels, low power, high drive strength, high slew rate, with pull-up resistor; FPGAVendor: Actel; Published: 21-Jul-2004; Publisher: Altium Limited; HelpURL: http://www.actel.com/documents/PA_libguide.pdf
pins: A (in), EN (in), PAD (io), Y (out)

## IOB25LPHL
designator U?
2.5 Volt CMOS input levels, low power, high drive strength, low slew rate; FPGAVendor: Actel; Published: 21-Jul-2004; Publisher: Altium Limited; HelpURL: http://www.actel.com/documents/PA_libguide.pdf
pins: A (in), EN (in), PAD (io), Y (out)

## IOB25LPHLU
designator U?
2.5 Volt CMOS input levels, low power, high drive strength, low slew rate, with pull-up resistor; FPGAVendor: Actel; Published: 21-Jul-2004; Publisher: Altium Limited; HelpURL: http://www.actel.com/documents/PA_libguide.pdf
pins: A (in), EN (in), PAD (io), Y (out)

## IOB25LPHN
designator U?
2.5 Volt CMOS input levels, low power, high drive strength, normal slew rate; FPGAVendor: Actel; Published: 21-Jul-2004; Publisher: Altium Limited; HelpURL: http://www.actel.com/documents/PA_libguide.pdf
pins: A (in), EN (in), PAD (io), Y (out)

## IOB25LPHNU
designator U?
2.5 Volt CMOS input levels, low power, high drive strength, normal slew rate, with pull-up resistor; FPGAVendor: Actel; Published: 21-Jul-2004; Publisher: Altium Limited; HelpURL: http://www.actel.com/documents/PA_libguide.pdf
pins: A (in), EN (in), PAD (io), Y (out)

## IOB25LPLH
designator U?
2.5 Volt CMOS input levels, low power, low drive strength, high slew rate; FPGAVendor: Actel; Published: 21-Jul-2004; Publisher: Altium Limited; HelpURL: http://www.actel.com/documents/PA_libguide.pdf
pins: A (in), EN (in), PAD (io), Y (out)

## IOB25LPLHU
designator U?
2.5 Volt CMOS input levels, low power, low drive strength, high slew rate, with pull-up resistor; FPGAVendor: Actel; Published: 21-Jul-2004; Publisher: Altium Limited; HelpURL: http://www.actel.com/documents/PA_libguide.pdf
pins: A (in), EN (in), PAD (io), Y (out)

## IOB25LPLL
designator U?
2.5 Volt CMOS input levels, low power, low drive strength, low slew rate; FPGAVendor: Actel; Published: 21-Jul-2004; Publisher: Altium Limited; HelpURL: http://www.actel.com/documents/PA_libguide.pdf
pins: A (in), EN (in), PAD (io), Y (out)

## IOB25LPLLU
designator U?
2.5 Volt CMOS input levels, low power, low drive strength, low slew rate, with pull-up resistor; FPGAVendor: Actel; Published: 21-Jul-2004; Publisher: Altium Limited; HelpURL: http://www.actel.com/documents/PA_libguide.pdf
pins: A (in), EN (in), PAD (io), Y (out)

## IOB25LPLN
designator U?
2.5 Volt CMOS input levels, low power, low drive strength, normal slew rate; FPGAVendor: Actel; Published: 21-Jul-2004; Publisher: Altium Limited; HelpURL: http://www.actel.com/documents/PA_libguide.pdf
pins: A (in), EN (in), PAD (io), Y (out)

## IOB25LPLNU
designator U?
2.5 Volt CMOS input levels, low power, low drive strength, normal slew rate, with pull-up resistor; FPGAVendor: Actel; Published: 21-Jul-2004; Publisher: Altium Limited; HelpURL: http://www.actel.com/documents/PA_libguide.pdf
pins: A (in), EN (in), PAD (io), Y (out)

## IOB33LH
designator U?
3.3 Volt CMOS input levels, low strength drive, high slew rate; FPGAVendor: Actel; Published: 21-Jul-2004; Publisher: Altium Limited; HelpURL: http://www.actel.com/documents/PA_libguide.pdf
pins: A (in), EN (in), PAD (io), Y (out)

## IOB33LHU
designator U?
3.3 Volt CMOS input levels, low strength drive, high slew rate, with pull-up resistor; FPGAVendor: Actel; Published: 21-Jul-2004; Publisher: Altium Limited; HelpURL: http://www.actel.com/documents/PA_libguide.pdf
pins: A (in), EN (in), PAD (io), Y (out)

## IOB33LL
designator U?
3.3 Volt CMOS input levels, low strength drive, low slew rate; FPGAVendor: Actel; Published: 21-Jul-2004; Publisher: Altium Limited; HelpURL: http://www.actel.com/documents/PA_libguide.pdf
pins: A (in), EN (in), PAD (io), Y (out)

## IOB33LLU
designator U?
3.3 Volt CMOS input levels, low strength drive, low slew rate, with pull-up resistor; FPGAVendor: Actel; Published: 21-Jul-2004; Publisher: Altium Limited; HelpURL: http://www.actel.com/documents/PA_libguide.pdf
pins: A (in), EN (in), PAD (io), Y (out)

## IOB33LN
designator U?
3.3 Volt CMOS input levels, low strength drive, normal slew rate; FPGAVendor: Actel; Published: 21-Jul-2004; Publisher: Altium Limited; HelpURL: http://www.actel.com/documents/PA_libguide.pdf
pins: A (in), EN (in), PAD (io), Y (out)

## IOB33LNU
designator U?
3.3 Volt CMOS input levels, low strength drive, normal slew rate, with pull-up resistor; FPGAVendor: Actel; Published: 21-Jul-2004; Publisher: Altium Limited; HelpURL: http://www.actel.com/documents/PA_libguide.pdf
pins: A (in), EN (in), PAD (io), Y (out)

## IOB33PH
designator U?
3.3 Volt CMOS input levels, PCI compliant, high slew rate; FPGAVendor: Actel; Published: 21-Jul-2004; Publisher: Altium Limited; HelpURL: http://www.actel.com/documents/PA_libguide.pdf
pins: A (in), EN (in), PAD (io), Y (out)

## IOB33PHU
designator U?
3.3 Volt CMOS input levels, PCI compliant, high slew rate, with pull-up resistor; FPGAVendor: Actel; Published: 21-Jul-2004; Publisher: Altium Limited; HelpURL: http://www.actel.com/documents/PA_libguide.pdf
pins: A (in), EN (in), PAD (io), Y (out)

## IOB33PL
designator U?
3.3 Volt CMOS input levels, PCI compliant, low slew rate; FPGAVendor: Actel; Published: 21-Jul-2004; Publisher: Altium Limited; HelpURL: http://www.actel.com/documents/PA_libguide.pdf
pins: A (in), EN (in), PAD (io), Y (out)

## IOB33PLU
designator U?
3.3 Volt CMOS input levels, PCI compliant, low slew rate, with pull-up resistor; FPGAVendor: Actel; Published: 21-Jul-2004; Publisher: Altium Limited; HelpURL: http://www.actel.com/documents/PA_libguide.pdf
pins: A (in), EN (in), PAD (io), Y (out)

## IOB33PN
designator U?
3.3 Volt CMOS input levels, PCI compliant, normal slew rate; FPGAVendor: Actel; Published: 21-Jul-2004; Publisher: Altium Limited; HelpURL: http://www.actel.com/documents/PA_libguide.pdf
pins: A (in), EN (in), PAD (io), Y (out)

## IOB33PNU
designator U?
3.3 Volt CMOS input levels, PCI compliant, normal slew rate, with pull-up resistor; FPGAVendor: Actel; Published: 21-Jul-2004; Publisher: Altium Limited; HelpURL: http://www.actel.com/documents/PA_libguide.pdf
pins: A (in), EN (in), PAD (io), Y (out)

## IOBL25HH
designator U?
2.5 Volt CMOS input levels, high drive strength, high slew rate; FPGAVendor: Actel; Published: 21-Jul-2004; Publisher: Altium Limited; HelpURL: http://www.actel.com/documents/PA_libguide.pdf
pins: A (in), EN (in), PAD (io), Y (out)

## IOBL25HHU
designator U?
2.5 Volt CMOS input levels, high drive strength, high slew rate, with pull-up resistor; FPGAVendor: Actel; Published: 21-Jul-2004; Publisher: Altium Limited; HelpURL: http://www.actel.com/documents/PA_libguide.pdf
pins: A (in), EN (in), PAD (io), Y (out)

## IOBL25HL
designator U?
2.5 Volt CMOS input levels, high drive strength, low slew rate; FPGAVendor: Actel; Published: 21-Jul-2004; Publisher: Altium Limited; HelpURL: http://www.actel.com/documents/PA_libguide.pdf
pins: A (in), EN (in), PAD (io), Y (out)

## IOBL25HLU
designator U?
2.5 Volt CMOS input levels, high drive strength, low slew rate, with pull-up resistor; FPGAVendor: Actel; Published: 21-Jul-2004; Publisher: Altium Limited; HelpURL: http://www.actel.com/documents/PA_libguide.pdf
pins: A (in), EN (in), PAD (io), Y (out)

## IOBL25HN
designator U?
2.5 Volt CMOS input levels, high drive strength, normal slew rate; FPGAVendor: Actel; Published: 21-Jul-2004; Publisher: Altium Limited; HelpURL: http://www.actel.com/documents/PA_libguide.pdf
pins: A (in), EN (in), PAD (io), Y (out)

## IOBL25HNU
designator U?
2.5 Volt CMOS input levels, high drive strength, normal slew rate, with pull-up resistor; FPGAVendor: Actel; Published: 21-Jul-2004; Publisher: Altium Limited; HelpURL: http://www.actel.com/documents/PA_libguide.pdf
pins: A (in), EN (in), PAD (io), Y (out)

## IOBL25LH
designator U?
2.5 Volt CMOS input levels, low drive strength, high slew rate; FPGAVendor: Actel; Published: 21-Jul-2004; Publisher: Altium Limited; HelpURL: http://www.actel.com/documents/PA_libguide.pdf
pins: A (in), EN (in), PAD (io), Y (out)

## IOBL25LHU
designator U?
2.5 Volt CMOS input levels, low drive strength, high slew rate, with pull-up resistor; FPGAVendor: Actel; Published: 21-Jul-2004; Publisher: Altium Limited; HelpURL: http://www.actel.com/documents/PA_libguide.pdf
pins: A (in), EN (in), PAD (io), Y (out)

## IOBL25LL
designator U?
2.5 Volt CMOS input levels, low drive strength, low slew rate; FPGAVendor: Actel; Published: 21-Jul-2004; Publisher: Altium Limited; HelpURL: http://www.actel.com/documents/PA_libguide.pdf
pins: A (in), EN (in), PAD (io), Y (out)

## IOBL25LLU
designator U?
2.5 Volt CMOS input levels, low drive strength, low slew rate, with pull-up resistor; FPGAVendor: Actel; Published: 21-Jul-2004; Publisher: Altium Limited; HelpURL: http://www.actel.com/documents/PA_libguide.pdf
pins: A (in), EN (in), PAD (io), Y (out)

## IOBL25LN
designator U?
2.5 Volt CMOS input levels, low drive strength, normal slew rate; FPGAVendor: Actel; Published: 21-Jul-2004; Publisher: Altium Limited; HelpURL: http://www.actel.com/documents/PA_libguide.pdf
pins: A (in), EN (in), PAD (io), Y (out)

## IOBL25LNU
designator U?
2.5 Volt CMOS input levels, low drive strength, normal slew rate, with pull-up resistor; FPGAVendor: Actel; Published: 21-Jul-2004; Publisher: Altium Limited; HelpURL: http://www.actel.com/documents/PA_libguide.pdf
pins: A (in), EN (in), PAD (io), Y (out)

## IOBL25LPHH
designator U?
2.5 Volt CMOS input levels, low power, high drive strength, high slew rate; FPGAVendor: Actel; Published: 21-Jul-2004; Publisher: Altium Limited; HelpURL: http://www.actel.com/documents/PA_libguide.pdf
pins: A (in), EN (in), PAD (io), Y (out)

## IOBL25LPHHU
designator U?
2.5 Volt CMOS input levels, low power, high drive strength, high slew rate, with pull-up resistor; FPGAVendor: Actel; Published: 21-Jul-2004; Publisher: Altium Limited; HelpURL: http://www.actel.com/documents/PA_libguide.pdf
pins: A (in), EN (in), PAD (io), Y (out)

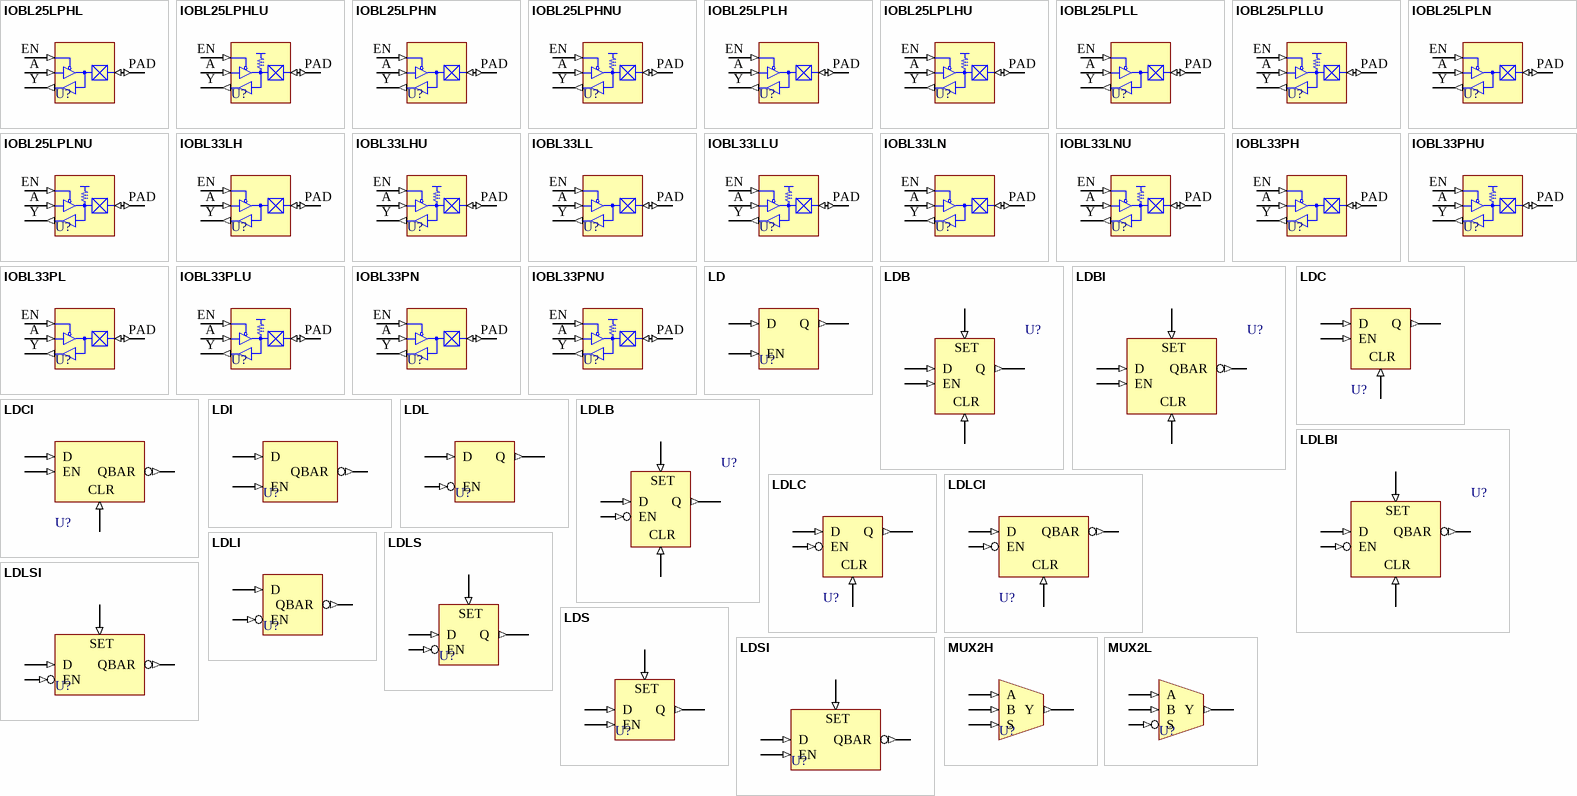
[diagram p4: symbols IOBL25LPHL to MUX2L]

## IOBL25LPHL
designator U?
2.5 Volt CMOS input levels, low power, high drive strength, low slew rate; FPGAVendor: Actel; Published: 21-Jul-2004; Publisher: Altium Limited; HelpURL: http://www.actel.com/documents/PA_libguide.pdf
pins: A (in), EN (in), PAD (io), Y (out)

## IOBL25LPHLU
designator U?
2.5 Volt CMOS input levels, low power, high drive strength, low slew rate, with pull-up resistor; FPGAVendor: Actel; Published: 21-Jul-2004; Publisher: Altium Limited; HelpURL: http://www.actel.com/documents/PA_libguide.pdf
pins: A (in), EN (in), PAD (io), Y (out)

## IOBL25LPHN
designator U?
2.5 Volt CMOS input levels, low power, high drive strength, normal slew rate; FPGAVendor: Actel; Published: 21-Jul-2004; Publisher: Altium Limited; HelpURL: http://www.actel.com/documents/PA_libguide.pdf
pins: A (in), EN (in), PAD (io), Y (out)

## IOBL25LPHNU
designator U?
2.5 Volt CMOS input levels, low power, high drive strength, normal slew rate, with pull-up resistor; FPGAVendor: Actel; Published: 21-Jul-2004; Publisher: Altium Limited; HelpURL: http://www.actel.com/documents/PA_libguide.pdf
pins: A (in), EN (in), PAD (io), Y (out)

## IOBL25LPLH
designator U?
2.5 Volt CMOS input levels, low power, low drive strength, high slew rate; FPGAVendor: Actel; Published: 21-Jul-2004; Publisher: Altium Limited; HelpURL: http://www.actel.com/documents/PA_libguide.pdf
pins: A (in), EN (in), PAD (io), Y (out)

## IOBL25LPLHU
designator U?
2.5 Volt CMOS input levels, low power, low drive strength, high slew rate, with pull-up resistor; FPGAVendor: Actel; Published: 21-Jul-2004; Publisher: Altium Limited; HelpURL: http://www.actel.com/documents/PA_libguide.pdf
pins: A (in), EN (in), PAD (io), Y (out)

## IOBL25LPLL
designator U?
2.5 Volt CMOS input levels, low power, low drive strength, low slew rate; FPGAVendor: Actel; Published: 21-Jul-2004; Publisher: Altium Limited; HelpURL: http://www.actel.com/documents/PA_libguide.pdf
pins: A (in), EN (in), PAD (io), Y (out)

## IOBL25LPLLU
designator U?
2.5 Volt CMOS input levels, low power, low drive strength, low slew rate, with pull-up resistor; FPGAVendor: Actel; Published: 21-Jul-2004; Publisher: Altium Limited; HelpURL: http://www.actel.com/documents/PA_libguide.pdf
pins: A (in), EN (in), PAD (io), Y (out)

## IOBL25LPLN
designator U?
2.5 Volt CMOS input levels, low power, low drive strength, normal slew rate; FPGAVendor: Actel; Published: 21-Jul-2004; Publisher: Altium Limited; HelpURL: http://www.actel.com/documents/PA_libguide.pdf
pins: A (in), EN (in), PAD (io), Y (out)

## IOBL25LPLNU
designator U?
2.5 Volt CMOS input levels, low power, low drive strength, normal slew rate, with pull-up resistor; FPGAVendor: Actel; Published: 21-Jul-2004; Publisher: Altium Limited; HelpURL: http://www.actel.com/documents/PA_libguide.pdf
pins: A (in), EN (in), PAD (io), Y (out)

## IOBL33LH
designator U?
3.3 Volt CMOS input levels, low strength drive, high slew rate; FPGAVendor: Actel; Published: 21-Jul-2004; Publisher: Altium Limited; HelpURL: http://www.actel.com/documents/PA_libguide.pdf
pins: A (in), EN (in), PAD (io), Y (out)

## IOBL33LHU
designator U?
3.3 Volt CMOS input levels, low strength drive, high slew rate, with pull-up resistor; FPGAVendor: Actel; Published: 21-Jul-2004; Publisher: Altium Limited; HelpURL: http://www.actel.com/documents/PA_libguide.pdf
pins: A (in), EN (in), PAD (io), Y (out)

## IOBL33LL
designator U?
3.3 Volt CMOS input levels, low strength drive, low slew rate; FPGAVendor: Actel; Published: 21-Jul-2004; Publisher: Altium Limited; HelpURL: http://www.actel.com/documents/PA_libguide.pdf
pins: A (in), EN (in), PAD (io), Y (out)

## IOBL33LLU
designator U?
3.3 Volt CMOS input levels, low strength drive, low slew rate, with pull-up resistor; FPGAVendor: Actel; Published: 21-Jul-2004; Publisher: Altium Limited; HelpURL: http://www.actel.com/documents/PA_libguide.pdf
pins: A (in), EN (in), PAD (io), Y (out)

## IOBL33LN
designator U?
3.3 Volt CMOS input levels, low strength drive, normal slew rate; FPGAVendor: Actel; Published: 21-Jul-2004; Publisher: Altium Limited; HelpURL: http://www.actel.com/documents/PA_libguide.pdf
pins: A (in), EN (in), PAD (io), Y (out)